# Altium footprint library BAT165AX.PcbLib: 1 footprints
Each footprint in its own frame and in the unit in brackets; x right, y up, seen from the top. Pads: shape width x height; smd on the part's side, far side on the other; paste and mask are expansions set on the pad; w line width, h text height; cw(c..) or ccw(c..) is an arc to the next point about the centre after c.
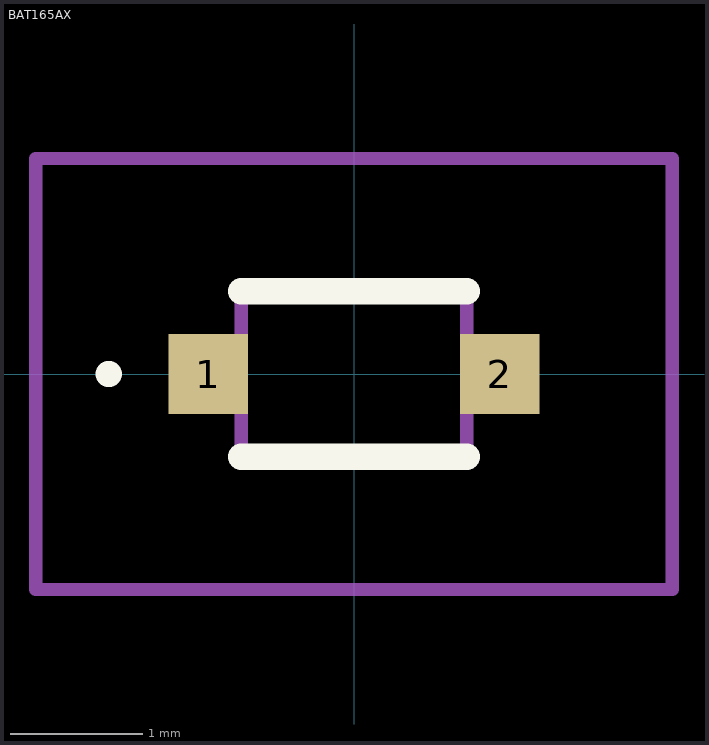
[diagram p0: the footprint, top view; thin cyan lines are the x and y axes]

## BAT165AX [mm]
pads (2):
  rect 0.6x0.6 smd: 1(-1.1,0) 2(1.1,0)
Top Overlay:
  lines w0.1: -1.9,0 -1.9,0 ; -1.9,0 ccw(c-1.85,0) -1.8,0 ; -1.9,0 cw(c-1.85,0) -1.8,0 ; -1.8,0 -1.8,0
  lines w0.2: -0.85,-0.625 0.85,-0.625 ; -0.85,0.625 0.85,0.625
Mechanical 15:
  lines w0.1: -0.85,-0.625 0.85,-0.625 0.85,0.625 -0.85,0.625 -0.85,-0.625
Mechanical 20:
  lines w0.1: -2.4,-1.625 2.4,-1.625 2.4,1.625 -2.4,1.625 -2.4,-1.625